# EAGLE library part OPA4830 (library 491Library)
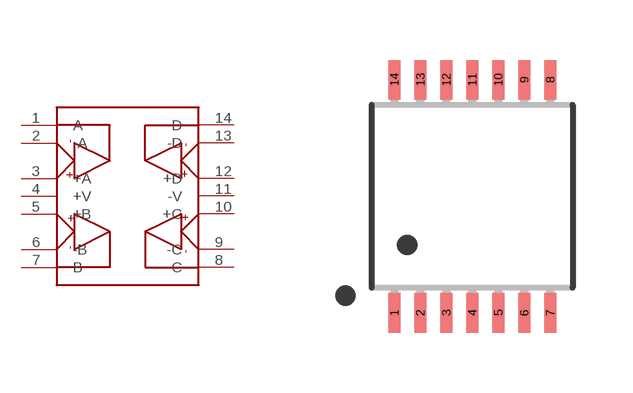
[diagram p1: symbol with the pads of TSSOP14; footprint TSSOP14]

Designator prefix -

## OPA4830  [TSSOP14]
1  A
2  -A
3  +A
4  +V
5  +B
6  -B
7  B
8  C
9  -C
10  +C
11  -V
12  +D
13  -D
14  D

## Footprint TSSOP14 (pad centres in mm)
TSSOP (Thin Shrink Small Outline Plastic) - 14 Specifications: Pin count:14 Example device(s): TXB0104PWR
smd 0.305 x 0.991: 1 -1.95,-2.918; 2 -1.3,-2.918; 3 -0.65,-2.918; 4 0,-2.918; 5 0.65,-2.918; 6 1.3,-2.918; 7 1.95,-2.918; 8 1.95,2.918; 9 1.3,2.918; 10 0.65,2.918; 11 0,2.918; 12 -0.65,2.918; 13 -1.3,2.918; 14 -1.95,2.918